# Altium schematic symbol library NRF52840-DK.SchLib: 1 symbol
Pins are listed as number, name and electrical type; pins without a type are passive.

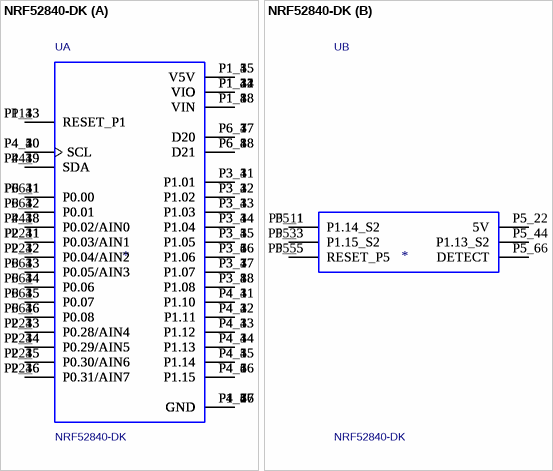
[diagram p0: symbol NRF52840-DK]

## NRF52840-DK
designator U  value NRF52840-DK
Parameter_4: Unavailable; Parameter_5: Nordic Semiconductor; Parameter_6: DEVELOPMENT KIT FOR nRF52840; Parameter_7: None; Footprint: MODULE_NRF52840-DK; Supplier: None; Parameter_8: NRF52840-DK
footprint MODULE_NRF52840-DK
part A pins: P1_1 VIO, P1_2 VIO, P1_3 RESET_P1, P1_4 VIO, P1_5 V5V, P1_6 GND, P1_7 GND, P1_8 VIN, P1_11 VIO, P1_12 VIO, P1_13 RESET_P1, P1_14 VIO, P1_15 V5V, P1_16 GND, P1_17 GND, P1_18 VIN, P1_31 VIO, P1_32 VIO, P1_33 RESET_P1, P1_34 VIO, P1_35 V5V, P1_36 GND, P1_37 GND, P1_38 VIN, P1_41 VIO, P1_42 VIO, P1_43 RESET_P1, P1_44 VIO, P1_45 V5V, P1_46 GND, P1_47 GND, P1_48 VIN, P2_1 P0.03/AIN1, P2_2 P0.04/AIN2, P2_3 P0.28/AIN4, P2_4 P0.29/AIN5, P2_5 P0.30/AIN6, P2_6 P0.31/AIN7, P2_11 P0.03/AIN1, P2_12 P0.04/AIN2, P2_13 P0.28/AIN4, P2_14 P0.29/AIN5, P2_15 P0.30/AIN6, P2_16 P0.31/AIN7, P2_31 P0.03/AIN1, P2_32 P0.04/AIN2, P2_33 P0.28/AIN4, P2_34 P0.29/AIN5, P2_35 P0.30/AIN6, P2_36 P0.31/AIN7, P2_41 P0.03/AIN1, P2_42 P0.04/AIN2, P2_43 P0.28/AIN4, P2_44 P0.29/AIN5, P2_45 P0.30/AIN6, P2_46 P0.31/AIN7, P3_1 P1.01, P3_2 P1.02, P3_3 P1.03, P3_4 P1.04, P3_5 P1.05, P3_6 P1.06, P3_7 P1.07, P3_8 P1.08, P3_11 P1.01, P3_12 P1.02, P3_13 P1.03, P3_14 P1.04, P3_15 P1.05, P3_16 P1.06, P3_17 P1.07, P3_18 P1.08, P3_31 P1.01, P3_32 P1.02, P3_33 P1.03, P3_34 P1.04, P3_35 P1.05, P3_36 P1.06, P3_37 P1.07, P3_38 P1.08, P3_41 P1.01, P3_42 P1.02, P3_43 P1.03, P3_44 P1.04, P3_45 P1.05, P3_46 P1.06, P3_47 P1.07, P3_48 P1.08, P4_1 P1.10, P4_2 P1.11, P4_3 P1.12, P4_4 P1.13, P4_5 P1.14, P4_6 P1.15, P4_7 GND, P4_8 P0.02/AIN0, P4_9 SDA, P4_10 SCL, P4_11 P1.10, P4_12 P1.11, P4_13 P1.12, P4_14 P1.13, P4_15 P1.14, P4_16 P1.15, P4_17 GND, P4_18 P0.02/AIN0, P4_19 SDA, P4_20 SCL, P4_31 P1.10, P4_32 P1.11, P4_33 P1.12, P4_34 P1.13, P4_35 P1.14, P4_36 P1.15, P4_37 GND, P4_38 P0.02/AIN0, P4_39 SDA, P4_40 SCL, P4_41 P1.10, P4_42 P1.11, P4_43 P1.12, P4_44 P1.13, P4_45 P1.14, P4_46 P1.15, P4_47 GND, P4_48 P0.02/AIN0, P4_49 SDA, P4_50 SCL, P6_1 P0.00, P6_2 P0.01, P6_3 P0.05/AIN3, P6_4 P0.06, P6_5 P0.07, P6_6 P0.08, P6_7 D20, P6_8 D21, P6_11 P0.00, P6_12 P0.01, P6_13 P0.05/AIN3, P6_14 P0.06, P6_15 P0.07, P6_16 P0.08, P6_17 D20, P6_18 D21, P6_31 P0.00, P6_32 P0.01, P6_33 P0.05/AIN3, P6_34 P0.06, P6_35 P0.07, P6_36 P0.08, P6_37 D20, P6_38 D21, P6_41 P0.00, P6_42 P0.01, P6_43 P0.05/AIN3, P6_44 P0.06, P6_45 P0.07, P6_46 P0.08, P6_47 D20, P6_48 D21
part B pins: P5_1 P1.14_S2, P5_2 5V, P5_3 P1.15_S2, P5_4 P1.13_S2, P5_5 RESET_P5, P5_6 DETECT, P5_11 P1.14_S2, P5_22 5V, P5_33 P1.15_S2, P5_44 P1.13_S2, P5_55 RESET_P5, P5_66 DETECT